# Altium integrated library con-lstb.IntLib: 41 symbols
Pins are listed as number, name and electrical type; pins without a type are passive.

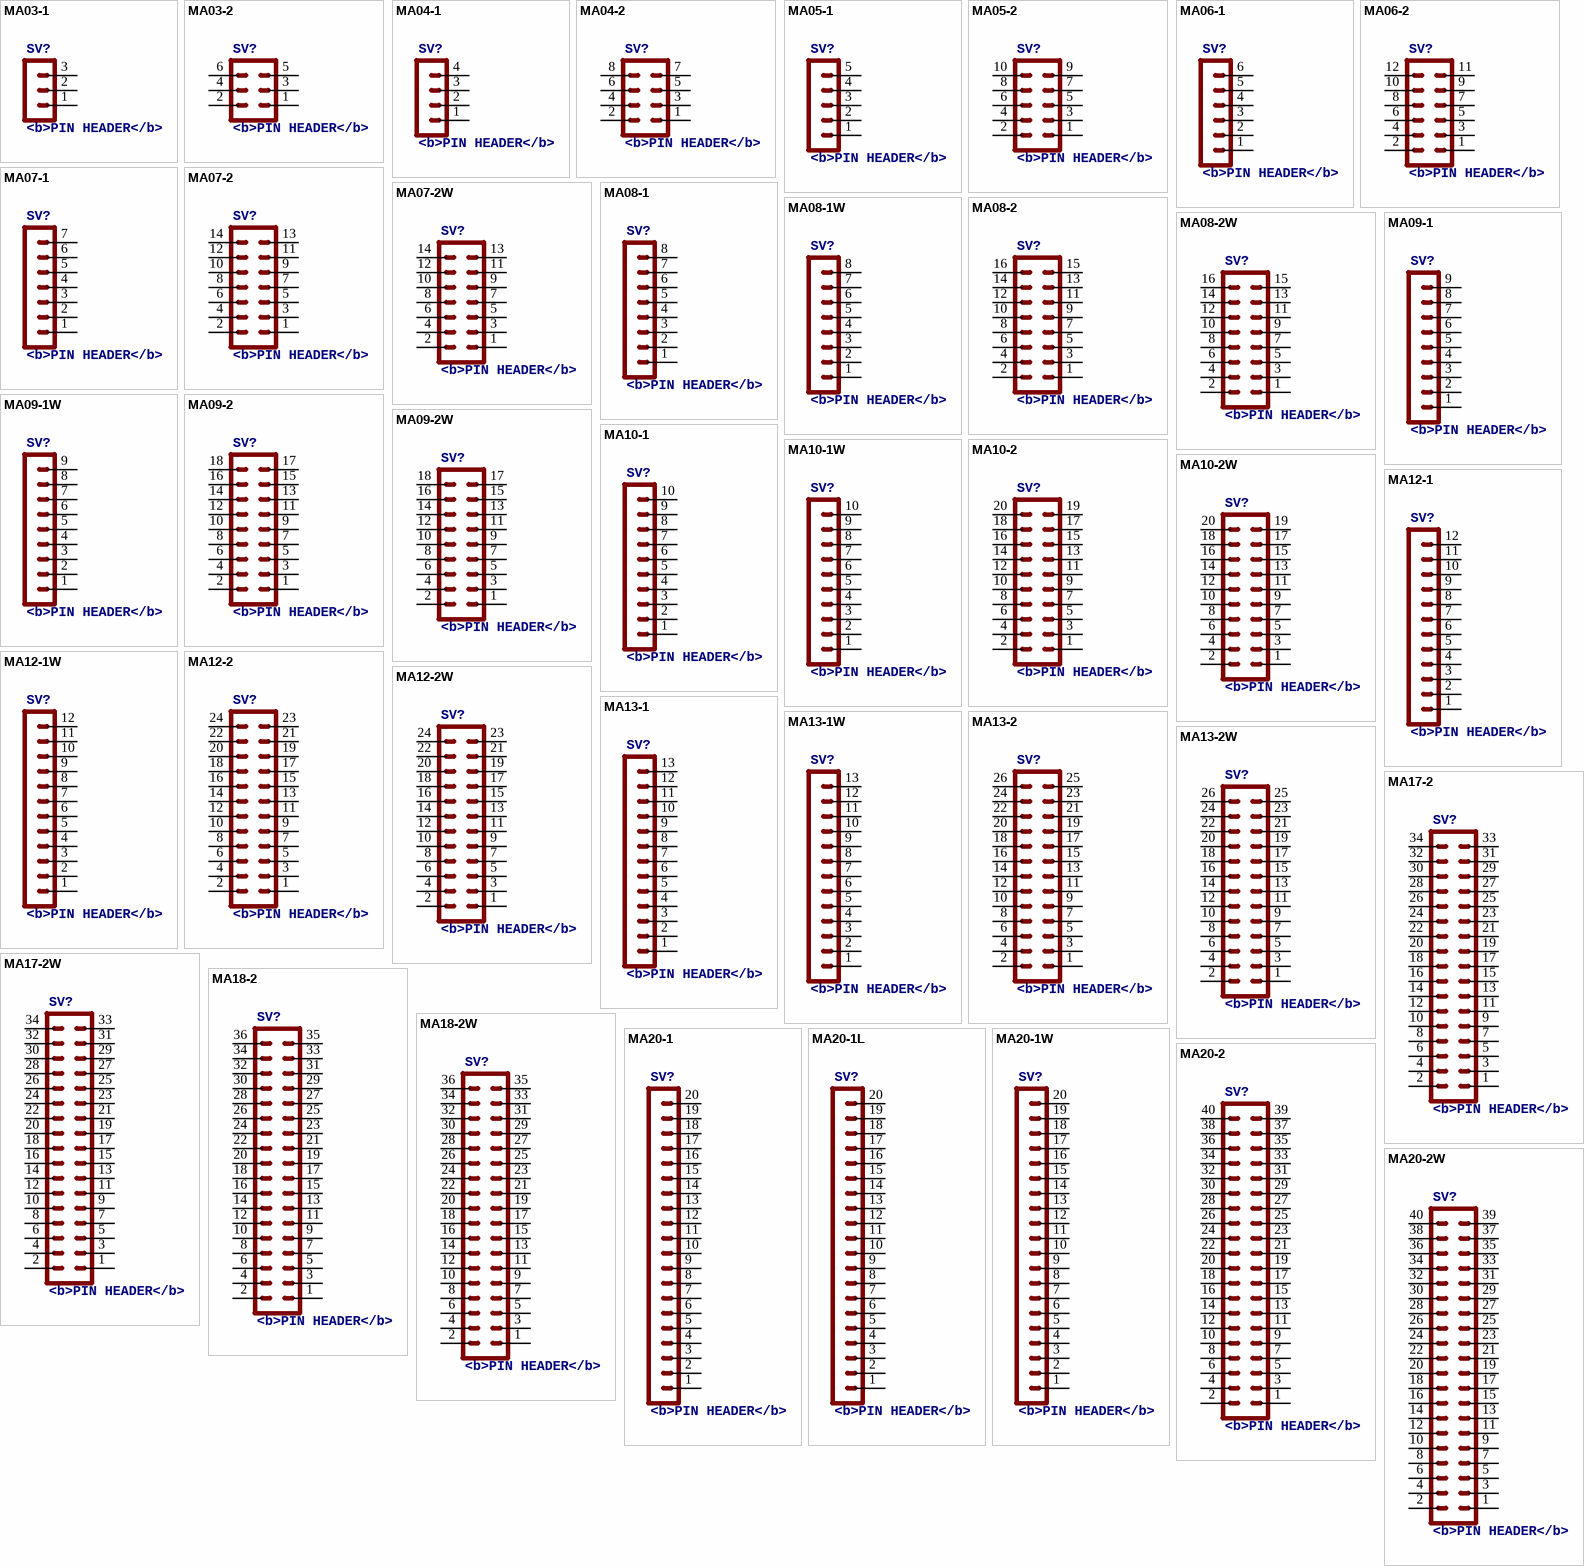
[diagram p0: symbols MA03-1 to MA20-2W]

## MA03-1
designator SV?, comment <b>PIN HEADER</b>
OC_FARNELL: unknown; OC_NEWARK: unknown
footprint MA03-1
pins: 1, 2, 3

## MA03-2
designator SV?, comment <b>PIN HEADER</b>
OC_FARNELL: unknown; OC_NEWARK: unknown
footprint MA03-2
pins: 1, 2, 3, 4, 5, 6

## MA04-1
designator SV?, comment <b>PIN HEADER</b>
OC_FARNELL: unknown; OC_NEWARK: unknown
footprint MA04-1
pins: 1, 2, 3, 4

## MA04-2
designator SV?, comment <b>PIN HEADER</b>
OC_FARNELL: unknown; OC_NEWARK: unknown
footprint MA04-2
pins: 1, 2, 3, 4, 5, 6, 7, 8

## MA05-1
designator SV?, comment <b>PIN HEADER</b>
OC_FARNELL: unknown; OC_NEWARK: unknown
footprint MA05-1
pins: 1, 2, 3, 4, 5

## MA05-2
designator SV?, comment <b>PIN HEADER</b>
OC_FARNELL: unknown; OC_NEWARK: unknown
footprint MA05-2
pins: 1, 2, 3, 4, 5, 6, 7, 8, 9, 10

## MA06-1
designator SV?, comment <b>PIN HEADER</b>
OC_FARNELL: unknown; OC_NEWARK: unknown
footprint MA06-1
pins: 1, 2, 3, 4, 5, 6

## MA06-2
designator SV?, comment <b>PIN HEADER</b>
OC_FARNELL: unknown; OC_NEWARK: unknown
footprint MA06-2
pins: 1, 2, 3, 4, 5, 6, 7, 8, 9, 10, 11, 12

## MA07-1
designator SV?, comment <b>PIN HEADER</b>
OC_FARNELL: unknown; OC_NEWARK: unknown
footprint MA07-1
pins: 1, 2, 3, 4, 5, 6, 7

## MA07-2
designator SV?, comment <b>PIN HEADER</b>
OC_FARNELL: unknown; OC_NEWARK: unknown
footprint MA07-2
pins: 1, 2, 3, 4, 5, 6, 7, 8, 9, 10, 11, 12, 13, 14

## MA07-2W
designator SV?, comment <b>PIN HEADER</b>
OC_FARNELL: unknown; OC_NEWARK: unknown
footprint MA07-2W
pins: 1, 2, 3, 4, 5, 6, 7, 8, 9, 10, 11, 12, 13, 14

## MA08-1
designator SV?, comment <b>PIN HEADER</b>
OC_FARNELL: unknown; OC_NEWARK: unknown
footprint MA08-1
pins: 1, 2, 3, 4, 5, 6, 7, 8

## MA08-1W
designator SV?, comment <b>PIN HEADER</b>
OC_FARNELL: unknown; OC_NEWARK: unknown
footprint MA08-1W
pins: 1, 2, 3, 4, 5, 6, 7, 8

## MA08-2
designator SV?, comment <b>PIN HEADER</b>
OC_FARNELL: unknown; OC_NEWARK: unknown
footprint MA08-2
pins: 1, 2, 3, 4, 5, 6, 7, 8, 9, 10, 11, 12, 13, 14, 15, 16

## MA08-2W
designator SV?, comment <b>PIN HEADER</b>
OC_FARNELL: unknown; OC_NEWARK: unknown
footprint MA08-2W
pins: 1, 2, 3, 4, 5, 6, 7, 8, 9, 10, 11, 12, 13, 14, 15, 16

## MA09-1
designator SV?, comment <b>PIN HEADER</b>
OC_FARNELL: unknown; OC_NEWARK: unknown
footprint MA09-1
pins: 1, 2, 3, 4, 5, 6, 7, 8, 9

## MA09-1W
designator SV?, comment <b>PIN HEADER</b>
OC_FARNELL: unknown; OC_NEWARK: unknown
footprint MA09-1W
pins: 1, 2, 3, 4, 5, 6, 7, 8, 9

## MA09-2
designator SV?, comment <b>PIN HEADER</b>
OC_FARNELL: unknown; OC_NEWARK: unknown
footprint MA09-2
pins: 1, 2, 3, 4, 5, 6, 7, 8, 9, 10, 11, 12, 13, 14, 15, 16, 17, 18

## MA09-2W
designator SV?, comment <b>PIN HEADER</b>
OC_FARNELL: unknown; OC_NEWARK: unknown
footprint MA09-2W
pins: 1, 2, 3, 4, 5, 6, 7, 8, 9, 10, 11, 12, 13, 14, 15, 16, 17, 18

## MA10-1
designator SV?, comment <b>PIN HEADER</b>
OC_FARNELL: unknown; OC_NEWARK: unknown
footprint MA10-1
pins: 1, 2, 3, 4, 5, 6, 7, 8, 9, 10

## MA10-1W
designator SV?, comment <b>PIN HEADER</b>
OC_FARNELL: unknown; OC_NEWARK: unknown
footprint MA10-1W
pins: 1, 2, 3, 4, 5, 6, 7, 8, 9, 10

## MA10-2
designator SV?, comment <b>PIN HEADER</b>
OC_FARNELL: unknown; OC_NEWARK: unknown
footprint MA10-2
pins: 1, 2, 3, 4, 5, 6, 7, 8, 9, 10, 11, 12, 13, 14, 15, 16, 17, 18, 19, 20

## MA10-2W
designator SV?, comment <b>PIN HEADER</b>
OC_FARNELL: unknown; OC_NEWARK: unknown
footprint MA10-2W
pins: 1, 2, 3, 4, 5, 6, 7, 8, 9, 10, 11, 12, 13, 14, 15, 16, 17, 18, 19, 20

## MA12-1
designator SV?, comment <b>PIN HEADER</b>
OC_FARNELL: unknown; OC_NEWARK: unknown
footprint MA12-1
pins: 1, 2, 3, 4, 5, 6, 7, 8, 9, 10, 11, 12

## MA12-1W
designator SV?, comment <b>PIN HEADER</b>
OC_FARNELL: unknown; OC_NEWARK: unknown
footprint MA12-1W
pins: 1, 2, 3, 4, 5, 6, 7, 8, 9, 10, 11, 12

## MA12-2
designator SV?, comment <b>PIN HEADER</b>
OC_FARNELL: unknown; OC_NEWARK: unknown
footprint MA12-2
pins: 1, 2, 3, 4, 5, 6, 7, 8, 9, 10, 11, 12, 13, 14, 15, 16, 17, 18, 19, 20, 21, 22, 23, 24

## MA12-2W
designator SV?, comment <b>PIN HEADER</b>
OC_FARNELL: unknown; OC_NEWARK: unknown
footprint MA12-2W
pins: 1, 2, 3, 4, 5, 6, 7, 8, 9, 10, 11, 12, 13, 14, 15, 16, 17, 18, 19, 20, 21, 22, 23, 24

## MA13-1
designator SV?, comment <b>PIN HEADER</b>
OC_FARNELL: unknown; OC_NEWARK: unknown
footprint MA13-1
pins: 1, 2, 3, 4, 5, 6, 7, 8, 9, 10, 11, 12, 13

## MA13-1W
designator SV?, comment <b>PIN HEADER</b>
OC_FARNELL: unknown; OC_NEWARK: unknown
footprint MA13-1W
pins: 1, 2, 3, 4, 5, 6, 7, 8, 9, 10, 11, 12, 13

## MA13-2
designator SV?, comment <b>PIN HEADER</b>
OC_FARNELL: unknown; OC_NEWARK: unknown
footprint MA13-2
pins: 1, 2, 3, 4, 5, 6, 7, 8, 9, 10, 11, 12, 13, 14, 15, 16, 17, 18, 19, 20, 21, 22, 23, 24, 25, 26

## MA13-2W
designator SV?, comment <b>PIN HEADER</b>
OC_FARNELL: unknown; OC_NEWARK: unknown
footprint MA13-2W
pins: 1, 2, 3, 4, 5, 6, 7, 8, 9, 10, 11, 12, 13, 14, 15, 16, 17, 18, 19, 20, 21, 22, 23, 24, 25, 26

## MA17-2
designator SV?, comment <b>PIN HEADER</b>
OC_FARNELL: unknown; OC_NEWARK: unknown
footprint MA17-2
pins: 1, 2, 3, 4, 5, 6, 7, 8, 9, 10, 11, 12, 13, 14, 15, 16, 17, 18, 19, 20, 21, 22, 23, 24, 25, 26, 27, 28, 29, 30, 31, 32, 33, 34

## MA17-2W
designator SV?, comment <b>PIN HEADER</b>
OC_FARNELL: unknown; OC_NEWARK: unknown
footprint MA17-2W
pins: 1, 2, 3, 4, 5, 6, 7, 8, 9, 10, 11, 12, 13, 14, 15, 16, 17, 18, 19, 20, 21, 22, 23, 24, 25, 26, 27, 28, 29, 30, 31, 32, 33, 34

## MA18-2
designator SV?, comment <b>PIN HEADER</b>
OC_FARNELL: unknown; OC_NEWARK: unknown
footprint MA18-2
pins: 1, 2, 3, 4, 5, 6, 7, 8, 9, 10, 11, 12, 13, 14, 15, 16, 17, 18, 19, 20, 21, 22, 23, 24, 25, 26, 27, 28, 29, 30, 31, 32, 33, 34, 35, 36

## MA18-2W
designator SV?, comment <b>PIN HEADER</b>
OC_FARNELL: unknown; OC_NEWARK: unknown
footprint MA18-2W
pins: 1, 2, 3, 4, 5, 6, 7, 8, 9, 10, 11, 12, 13, 14, 15, 16, 17, 18, 19, 20, 21, 22, 23, 24, 25, 26, 27, 28, 29, 30, 31, 32, 33, 34, 35, 36

## MA20-1
designator SV?, comment <b>PIN HEADER</b>
OC_FARNELL: unknown; OC_NEWARK: unknown
footprint MA20-1
pins: 1, 2, 3, 4, 5, 6, 7, 8, 9, 10, 11, 12, 13, 14, 15, 16, 17, 18, 19, 20

## MA20-1L
designator SV?, comment <b>PIN HEADER</b>
OC_FARNELL: unknown; OC_NEWARK: unknown
footprint MA20-1L
pins: 1, 2, 3, 4, 5, 6, 7, 8, 9, 10, 11, 12, 13, 14, 15, 16, 17, 18, 19, 20

## MA20-1W
designator SV?, comment <b>PIN HEADER</b>
OC_FARNELL: unknown; OC_NEWARK: unknown
footprint MA20-1W
pins: 1, 2, 3, 4, 5, 6, 7, 8, 9, 10, 11, 12, 13, 14, 15, 16, 17, 18, 19, 20

## MA20-2
designator SV?, comment <b>PIN HEADER</b>
OC_FARNELL: unknown; OC_NEWARK: unknown
footprint MA20-2
pins: 1, 2, 3, 4, 5, 6, 7, 8, 9, 10, 11, 12, 13, 14, 15, 16, 17, 18, 19, 20, 21, 22, 23, 24, 25, 26, 27, 28, 29, 30, 31, 32, 33, 34, 35, 36, 37, 38, 39, 40

## MA20-2W
designator SV?, comment <b>PIN HEADER</b>
OC_FARNELL: unknown; OC_NEWARK: unknown
footprint MA20-2W
pins: 1, 2, 3, 4, 5, 6, 7, 8, 9, 10, 11, 12, 13, 14, 15, 16, 17, 18, 19, 20, 21, 22, 23, 24, 25, 26, 27, 28, 29, 30, 31, 32, 33, 34, 35, 36, 37, 38, 39, 40

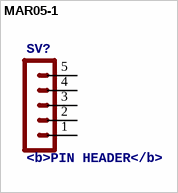
[diagram p1: symbol MAR05-1]

## MAR05-1
designator SV?, comment <b>PIN HEADER</b>
OC_FARNELL: unknown; OC_NEWARK: unknown
footprint MAR05-1
pins: 1, 2, 3, 4, 5